# Altium schematic symbol library lib-base.SchLib: 43 symbols
Pins are listed as number, name and electrical type; pins without a type are passive.

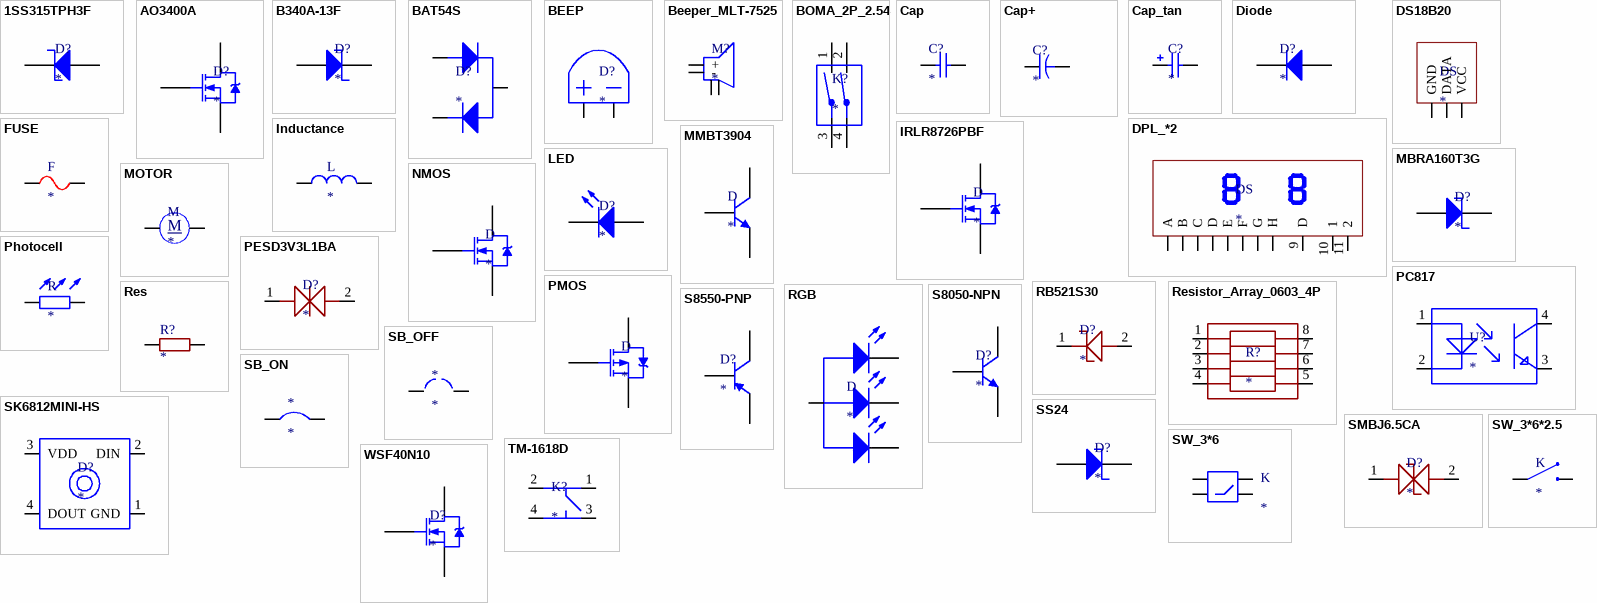
[diagram p0: symbols 1SS315TPH3F to WSF40N10]

## 1SS315TPH3F
designator D?
肖特基二极管 C146374
footprint SOD-323
pins: 1 A, 2 K

## AO3400A
designator D?
NMOS-立创商城-C347475
footprint SOT23_3
pins: 1 G, 2 S, 3 D

## B340A-13F
designator D?
肖特基二极管 立创商城-C64982
footprint SMA(DO-214AC)
pins: 1 A, 2 K

## BAT54S
designator D?
肖特基二极管*2 立创商城-C47546
pins: 1, 2, 3

## BEEP
designator D?
蜂鸣器
pins: 1, 2

## Beeper_MLT-7525
designator M?
MLT-7525 蜂鸣器
footprint MLT-7525_SMD
pins: 1 +, 2 -, 3, 4

## BOMA_2P_2.54
designator K?
拨码开关 2p 2.54
pins: 1, 2, 3, 4

## Cap
designator C?
电容_无极性
footprint C_SOP_0603
footprint C_SOP_0805
footprint C_SMD_0402
pins: 1, 2

## Cap+
designator C?
电容_有极性
pins: 1, 2

## Cap_tan
designator C?
钽电容
footprint C-SMD_L7.3-W4.3-R-RD
pins: 1, 2

## Diode
designator D?
肖特基二极管 / 1N4007、SS24
pins: 1 K, 2 A

## DPL_*2
designator DS
数码管
pins: 1 A, 2 B, 3 C, 4 D, 5 E, 6 F, 7 G, 8 H, 9 D, 10 1, 11 2

## DS18B20
designator DS
DS18B20  传感器
footprint TO_92A
pins: 1 GND, 2 DATA, 3 VCC

## FUSE
designator F
自恢复保险丝
pins: 1, 2

## Inductance
designator L
电感
pins: 1, 2

## IRLR8726PBF
designator D
pins: 1 G, 2 S, 3 D

## LED
designator D?
发光二极管
pins: 1 K, 2 A

## MBRA160T3G
designator D?
MBRA160T3G
footprint SMA(DO-214AC)
pins: 1 A, 2 K

## MMBT3904
designator D
NPN
footprint SOT23_3
pins: 1 B, 2 E, 3 C

## MOTOR
designator M
电机
pins: 1, 2

## NMOS
designator D
NMOS管
footprint SOT23_3
pins: 1 G, 2 S, 3 D

## PC817
designator U?
光耦 立创商城-C3025164
footprint SMD-4P
pins: 1 0, 2 0, 3 0, 4 0

## PESD3V3L1BA
designator D?
立创商城-C3029028
footprint SOD-123
pins: 1, 2

## Photocell
designator R
光敏电阻
footprint Photocell
pins: 1, 2

## PMOS
designator D
PMOS管
pins: 1 G, 2 D, 3 S

## RB521S30
designator D?
立创商城-C232844
footprint SOD-523
pins: 1, 2

## Res
designator R?
电阻; Publisher: MGCJ
footprint R_SMD_0603
footprint R_SMD_0805
footprint R_SMD_0402
pins: 1, 2

## Resistor_Array_0603_4P
designator R?
排阻
pins: 1, 2, 3, 4, 5, 6, 7, 8

## RGB
designator D
立创C383429
pins: 1, 2 K, 3 K, 4 K

## S8050-NPN
designator D?
NPN
footprint SOT23_3
pins: 1 B, 2 E, 3 C

## S8550-PNP
designator D?
PNP
pins: 1 B, 2 E, 3 C

## SB_OFF
designator *
断路
footprint SB_ON_OFF
pins: 1, 2

## SB_ON
designator *
短路
footprint SB_ON_OFF
pins: 1, 2

## SK6812MINI-HS
designator D?
RGB灯-立创商城-C2922787
footprint SK6812MINI-HS
pins: 1 GND, 2 DIN, 3 VDD, 4 DOUT

## SMBJ6.5CA
designator D?
立创商城-C123934
footprint SMB(DO-214AA)
pins: 1, 2

## SS24
designator D?
立创商城-C50645
footprint SMA(DO-214AC)
pins: 1 A, 2 K

## SW_3*6
designator K
按键
footprint SW_3*6
pins: 1, 2, 3, 4

## SW_3*6*2.5
designator K
贴片按键
footprint SW_SMD_3*6
pins: 1, 2

## TM-1618D
designator K?
限位开关 立创商城-C2689673
footprint TM-1618D
pins: 1, 2, 3, 4

## WSF40N10
designator D?
N沟道 立创商城-C148435
footprint TO252_2
pins: 1 G, 2 D, 3 S

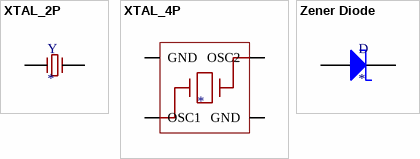
[diagram p1: symbols XTAL_2P to Zener Diode]

## XTAL_2P
designator Y
晶振  适用于无源，2P
footprint XTAL_49SMD
pins: 1, 2

## XTAL_4P
designator Y
XTAL-3225
footprint XTAL_SMD_3225
pins: 1 OSC1, 2 GND, 3 OSC2, 4 GND

## Zener Diode
designator D
稳压管
pins: 1 A, 2 K